# Altium footprint library Inductor.PcbLib: 1 footprints
Each footprint in its own frame and in the unit in brackets; x right, y up, seen from the top. Pads: shape width x height; smd on the part's side, far side on the other; paste and mask are expansions set on the pad; w line width, h text height; cw(c..) or ccw(c..) is an arc to the next point about the centre after c.
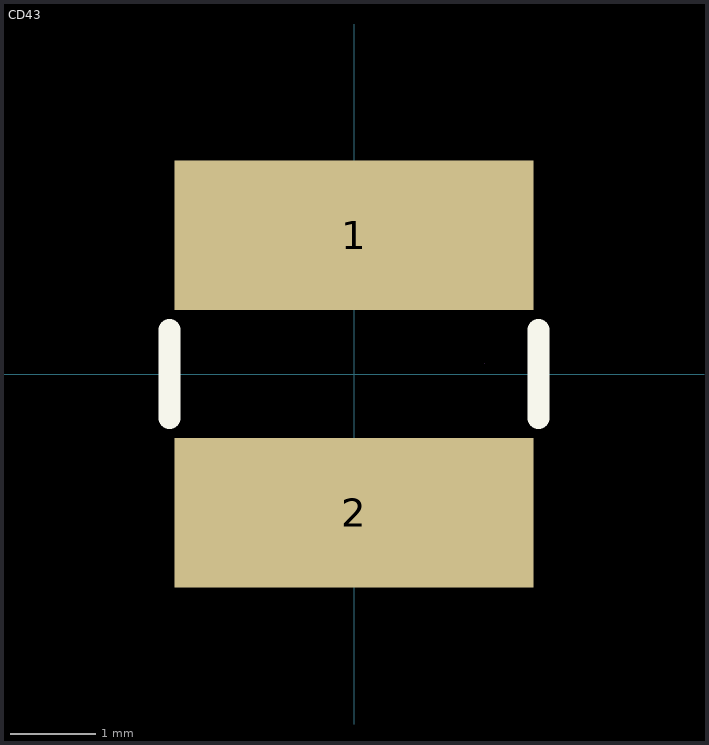
[diagram p0: the footprint, top view; thin cyan lines are the x and y axes]

## CD43 [mm]
pads (2):
  rect 4.2x1.75 smd paste+0 mask+0.051: 1(0,1.625) 2(0,-1.625)
Top Overlay:
  lines w0.254: -2.159,-0.519 -2.159,0.519 ; 2.159,-0.519 2.159,0.519
Mechanical 15:
  lines w0.003: 1.524,0.127 1.524,0.127
3D body "SMD_Inductor_CD43.step": height 3.22, standoff -0.01, extent -2,-2.25 2,2.25